# Altium schematic symbol library PBL - Batteries.SCHLIB: 5 symbols
Pins are listed as number, name and electrical type; pins without a type are passive.

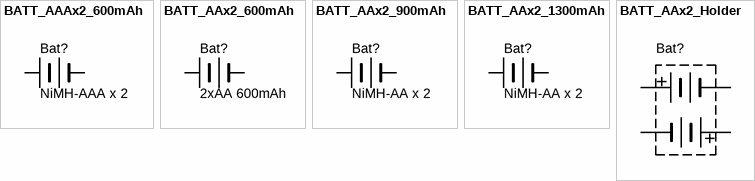
[diagram p0: symbols BATT_AAAx2_600mAh to BATT_AAx2_Holder]

## BATT_AAAx2_600mAh
designator Bat?, comment NiMH-AAA x 2  (no BOM)
Battery pack, 2-cell AAA; Manufacturer 1: JJJ; Manufacturer Part Number 1: NiMH-AAA-2-600-PB7; Ratings: 600 mAh; Package / Case: per dwg
footprint BAT-AAA-2 (AAA battery pack, 2 side by side)
pins: 1, 2

## BATT_AAx2_600mAh
designator Bat?, comment 2xAA 600mAh  (no BOM)
Battery pack NiMH 600mAh 2-cell AA; Manufacturer 1: Gold Peak; Manufacturer Part Number 1: 60AAM2B2H PB3; Package / Case: per dwg; Ratings: 600 mAh
footprint BAT-AA-2 (AA battery, 2 side by side)
pins: 1, 2

## BATT_AAx2_900mAh
designator Bat?, comment NiMH-AA x 2  (no BOM)
Battery pack, 2-cell AA; Manufacturer 1: JJJ; Manufacturer Part Number 1: NiMH-AA-2-900-PB3; Ratings: 900 mAh; Package / Case: per dwg
footprint BAT-AA-2 (AA battery, 2 side by side)
pins: 1, 2

## BATT_AAx2_1300mAh
designator Bat?, comment NiMH-AA x 2  (no BOM)
Battery pack, 2-cell AA; Manufacturer 1: JJJ; Manufacturer Part Number 1: NiMH-AA-2-1300-PB1; Ratings: 1300 mAh; Package / Case: per dwg
footprint BAT-AA-2 (AA battery, 2 side by side)
pins: 1, 2

## BATT_AAx2_Holder
designator Bat?, comment NiMH-AA x 2  (value not drawn)
Battery holder 2xAA PCB mount; Manufacturer 1: MPD (Memory Protection Devices); Manufacturer Part Number 1: BK-6100-PC4; Ratings: 1300 mAh; Battery Type, Function: Cylindrical, Holder; Style: Holder (Open); Battery Cell Size: AA; Number of Cells: 2; Package / Case: per dwg; Supplier 1: Digi-Key; Supplier Part Number 1: BK-6100-PC4-ND; Mounting Type: PCB, Through Hole; Height Above Board: 0.657" (16.69mm); ComponentLink1URL: http://www.memoryprotectiondevices.com/datasheets/BK-6100-PC4-datasheet.pdf; ComponentLink1Description: http://www.memoryprotectiondevices.com/datasheets/BK-6100-PC4-datasheet.pdf
footprint BATT_HOLDER_2XAA (2-cell AA battery holder)
pins: C1+, C1-, C2+, C2-